# EAGLE library part ITSY_BITSY_M4EXPRESS (library Microcontroller_Boards)
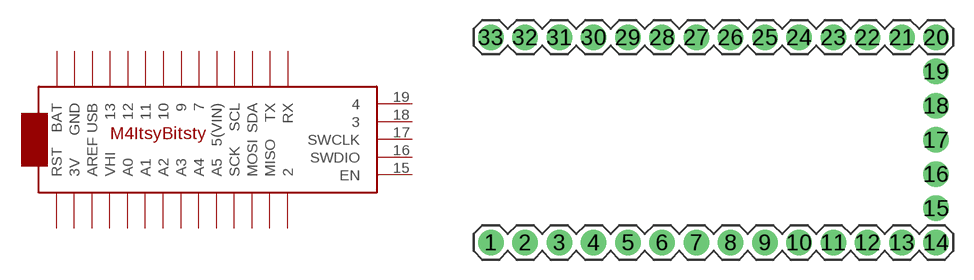
[diagram p0: symbol with the pads of ITSY_BITSY; footprint ITSY_BITSY]

Designator prefix -

## ITSY_BITSY_M4EXPRESS1  [ITSY_BITSY]
1  RST
2  3V
3  AREF
4  VHI
5  A0
6  A1
7  A2
8  A3
9  A4
10  A5
11  SCK
12  MOSI
13  MISO
14  2
15  EN
16  SWDIO
17  SWCLK
18  3
19  4
20  RX
21  TX
22  SDA
23  SCL
24  5(VIN)
25  7
26  9
27  10
28  11
29  12
30  13
31  USB
32  GND
33  BAT

## Footprint ITSY_BITSY (pad centres in mm)
Itsy Bitsy Footprint Specifications: Pin count:33 Pin pitch:0.1"
drill 1.016 pad 1.88: 1 0,0; 2 2.54,0; 3 5.08,0; 4 7.62,0; 5 10.16,0; 6 12.7,0; 7 15.24,0; 8 17.78,0; 9 20.32,0; 10 22.86,0; 11 25.4,0; 12 27.94,0; 13 30.48,0; 14 33.02,0; 15 33.02,2.54; 16 33.02,5.08; 17 33.02,7.62; 18 33.02,10.16; 19 33.02,12.7; 20 33.02,15.24; 21 30.48,15.24; 22 27.94,15.24; 23 25.4,15.24; 24 22.86,15.24; 25 20.32,15.24; 26 17.78,15.24; 27 15.24,15.24; 28 12.7,15.24; 29 10.16,15.24; 30 7.62,15.24; 31 5.08,15.24; 32 2.54,15.24; 33 0,15.24